# EAGLE library part 692121030100 (library WE_Stecker)
WR-COM USB 3.0 HORIZONTAL TYPE A=>Code : Con_I-O_COM_USB-3.0_A_629121030100 <http://katalog.we-online.de/media/images/eican/Con_I-O_COM_USB-3.0_A_629121030100_pf2.jpg> Details see: http://katalog.we-online.de/en/em/COM_3_0_TYPE_A_HORIZONTAL Created 2014-07-09, Karrer Zheng 2014 (C) Würth Elektronik
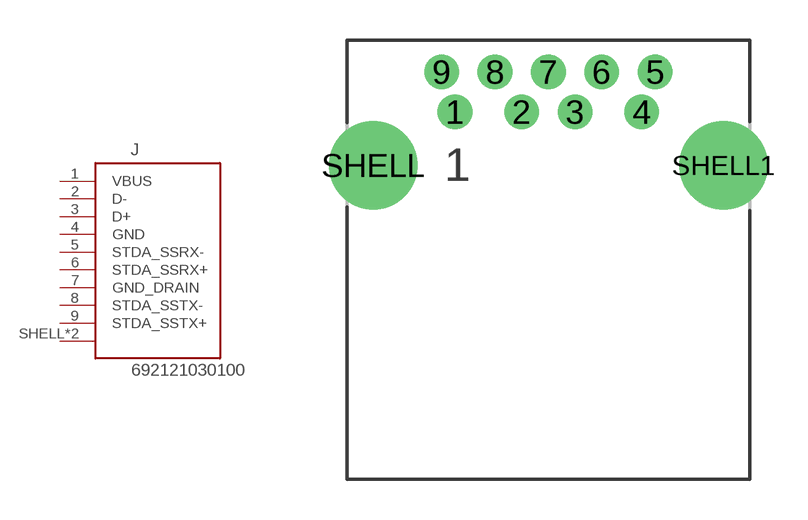
[diagram p79: symbol with the pads of 692121030100; footprint 692121030100]

Designator prefix J

## 692121030100  [692121030100]
1  VBUS
2  D-
3  D+
4  GND
5  STDA_SSRX-
6  STDA_SSRX+
7  GND_DRAIN
8  STDA_SSTX-
9  STDA_SSTX+
SHELL  SHIELD
SHELL1  SHIELD

## Footprint 692121030100 (pad centres in mm)
WR-COM USB 3.0 HORIZONTAL TYPE A
drill 0.7 pad 1.3: 1 -3.5,-1.5; 2 -1,-1.5; 3 1,-1.5; 4 3.5,-1.5; 5 4,0; 6 2,0; 7 0,0; 8 -2,0; 9 -4,0
drill 2.3 pad 3.3: SHELL -6.57,-3.5; SHELL1 6.57,-3.5